# Altium footprint library PCB1.PcbLib: 9 footprints
Each footprint in its own frame and in the unit in brackets; x right, y up, seen from the top. Pads: shape width x height; smd on the part's side, far side on the other; paste and mask are expansions set on the pad; w line width, h text height; cw(c..) or ccw(c..) is an arc to the next point about the centre after c.
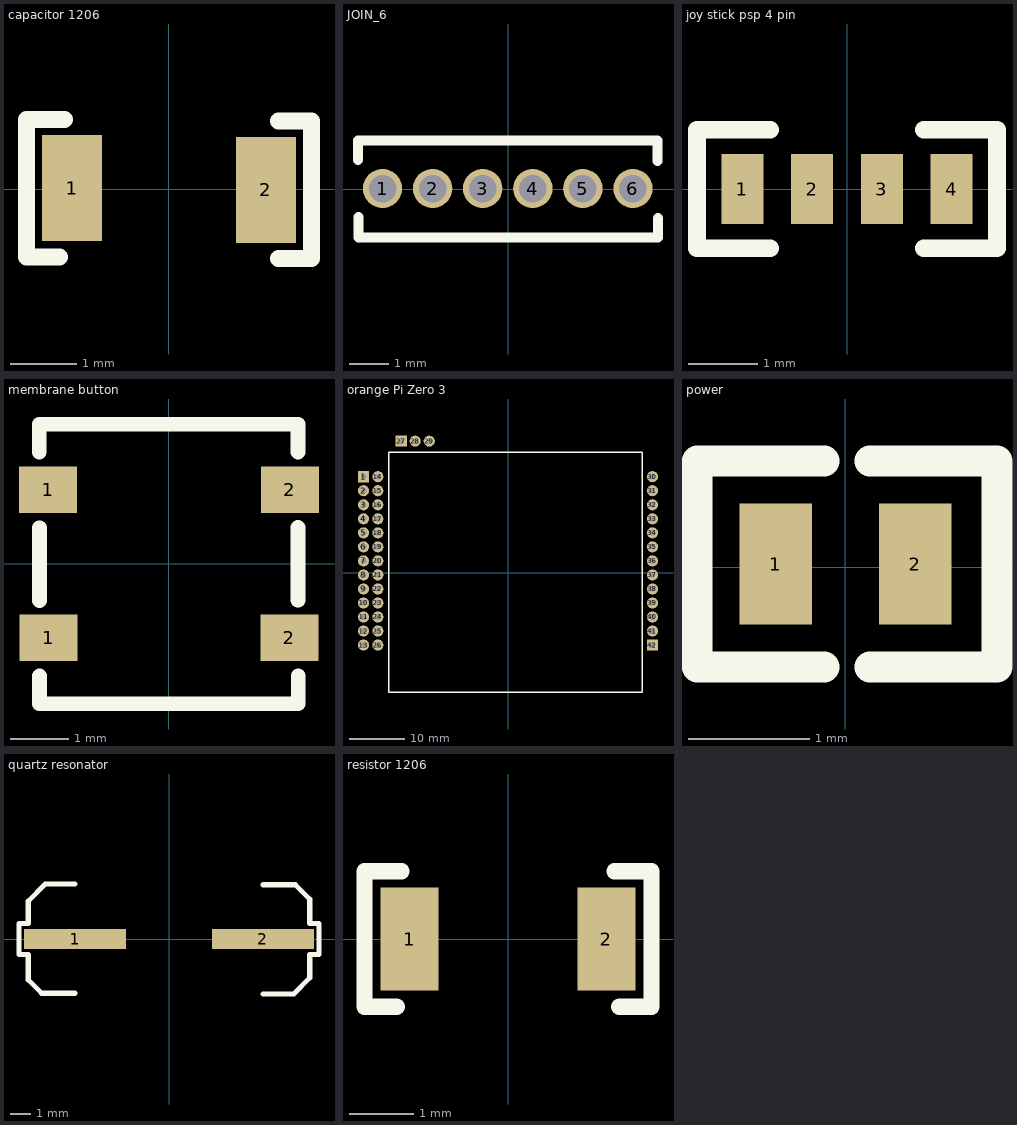
[diagram p0: the footprints below, top view; thin cyan lines are the x and y axes]

## atmega32u4 [mm]

## capacitor 1206 [mm]
pads (2):
  rect 0.9x1.6 smd: 1(-1.462,0.013) 2(1.463,-0.012)
Top Overlay:
  lines w0.254: -2.15,-1.025 -1.65,-1.025 ; -2.15,-1 -2.15,1.05 -1.575,1.05 ; 1.65,-1.05 2.15,-1.05 2.15,1.025 1.65,1.025
3D body "1206 觐礓葛.x_b": height 1.61, standoff 0.01, extent -1.562,-0.737 1.538,0.763

## JOIN_6 [mm]
pads (6):
  round 1 hole 0.7: 1(-3.2,0.025) 2(-1.925,0.025) 3(-0.65,0.025) 4(0.625,0.025) 5(1.9,0.025) 6(3.175,0.025)
Top Overlay:
  lines w0.254: -3.825,0.75 -3.825,1.25 3.8,1.25 3.8,0.725 ; -3.812,-0.7 -3.812,-1.225 3.813,-1.225 3.813,-0.725
3D body "DS1031-01-1x6P8BV3-1.step": height 4.61, standoff -2.59, extent -3.81,-1.25 3.81,1.25

## joy stick psp 4 pin [mm]
pads (4):
  rect 0.6x1 smd: 1(-1.5,0) 2(-0.5,0) 3(0.5,0) 4(1.5,0)
Top Overlay:
  lines w0.254: -1.1,-0.85 -2.15,-0.85 -2.15,0.85 -1.1,0.85 ; 1.1,-0.85 2.15,-0.85 2.15,0.85 1.1,0.85

## membrane button [mm]
pads (4):
  rect 1x0.8 smd: 1(-2.075,1.275) 1(-2.065,-1.274) 2(2.075,-1.275) 2(2.085,1.276)
Top Overlay:
  lines w0.254: -2.225,1.925 -2.225,2.4 2.225,2.4 2.225,1.925 ; -2.222,-1.93 -2.222,-2.405 2.228,-2.405 2.228,-1.93 ; -2.222,-0.63 -2.222,0.62 ; 2.225,-0.625 2.225,0.625
3D body "4.8x4.8x0.55mm.stp": height 0.84, standoff 0.15, extent -2.222,-2.388 2.222,2.388

## orange Pi Zero 3 [mm]
pads (42):
  rect 2x2 hole 1: 1(-26,17.325) 27(-19.225,23.725) 42(26,-12.975)
  round 2 hole 1: 2(-26,14.8) 3(-26,12.275) 4(-26,9.75) 5(-26,7.225) 6(-26,4.7) 7(-26,2.175) 8(-26,-0.35) 9(-26,-2.875) 10(-26,-5.4) 11(-26,-7.925) 12(-26,-10.45) 13(-26,-12.975) 14(-23.425,17.325) 15(-23.425,14.8) 16(-23.425,12.275) 17(-23.425,9.75) 18(-23.425,7.225) 19(-23.425,4.7) 20(-23.425,2.175) 21(-23.425,-0.35) 22(-23.425,-2.875) 23(-23.425,-5.4) 24(-23.425,-7.925) 25(-23.425,-10.45) 26(-23.425,-12.975) 28(-16.7,23.725) 29(-14.175,23.725) 30(26,17.325) 31(26,14.8) 32(26,12.275) 33(26,9.75) 34(26,7.225) 35(26,4.7) 36(26,2.175) 37(26,-0.35) 38(26,-2.875) 39(26,-5.4) 40(26,-7.925) 41(26,-10.45)
Top Overlay:
  lines w0.254: -21.45,-21.5 24.15,-21.5 24.15,21.75 -21.45,21.75 -21.45,-21.5
3D body "OrangePiZero3.stp": height 17.7, standoff 0.8, extent -27.5,-26.2 27.5,30.227

## power [mm]
pads (2):
  rect 0.6x1 smd: 1(-0.575,0.025) 2(0.575,0.025)
Top Overlay:
  lines w0.254: -0.175,-0.825 -1.225,-0.825 -1.225,0.875 -0.175,0.875 ; 0.2,-0.825 1.25,-0.825 1.25,0.875 0.2,0.875

## quartz resonator [mm]
pads (2):
  rect 5x1 smd: 1(-4.6,0) 2(4.6,0)
Top Overlay:
  lines w0.254: -4.6,-2.662 -6.238,-2.662 -6.9,-2 -6.9,-0.763 -7.35,-0.763 -7.35,0.763 -6.9,0.763 -6.9,1.85 -6.062,2.688 -4.6,2.688 ; 4.6,-2.688 6.112,-2.688 6.9,-1.9 6.9,-0.763 7.35,-0.763 7.35,0.763 6.9,0.763 6.9,1.95 6.188,2.662 4.6,2.662
3D body "crystal-smd.STEP": height 4.3, standoff 0, extent -6.75,-2.5 6.75,2.5

## resistor 1206 [mm]
pads (2):
  rect 0.9x1.6 smd: 1(-1.525,0) 2(1.525,0)
Top Overlay:
  lines w0.254: -2.225,-1.05 -1.725,-1.05 ; -2.225,-1.025 -2.225,1.051 -1.65,1.051 ; 1.65,1.051 2.225,1.051 2.225,-1.025 ; 1.725,-1.05 2.225,-1.05
3D body "STEP_AP214_SMD resistor 1206 (Imperial Size Code) - base model (no value).stp": height 0.56, standoff 0, extent -1.55,-0.8 1.55,0.8